# EAGLE library part TPA6110A2 (library BurrBrownAudioParts)
TPA6110A2: 150-mW Stereo Audio Power Amplifier
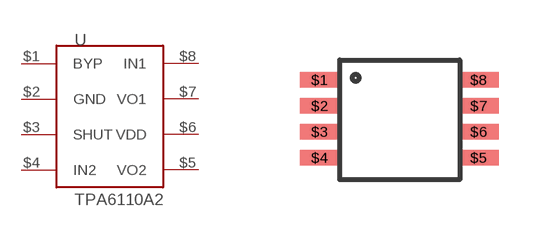
[diagram p9: symbol with the pads of MSOP; footprint MSOP]

Designator prefix -

## TPA6110A2  [MSOP]
$1  BYP
$2  GND
$3  SHUT
$4  IN2
$5  VO2
$6  VDD
$7  VO1
$8  IN1

## Footprint MSOP (pad centres in mm)
smd 1 x 0.38: $1 0,0; $2 0,-0.65; $3 0,-1.3; $4 0,-1.95; $5 3.98,-1.95; $6 3.98,-1.3; $7 3.98,-0.65; $8 3.98,0